# EAGLE library part 74*38 (library 74xx-eu)
Quad 2-input NAND buffer (open collector)
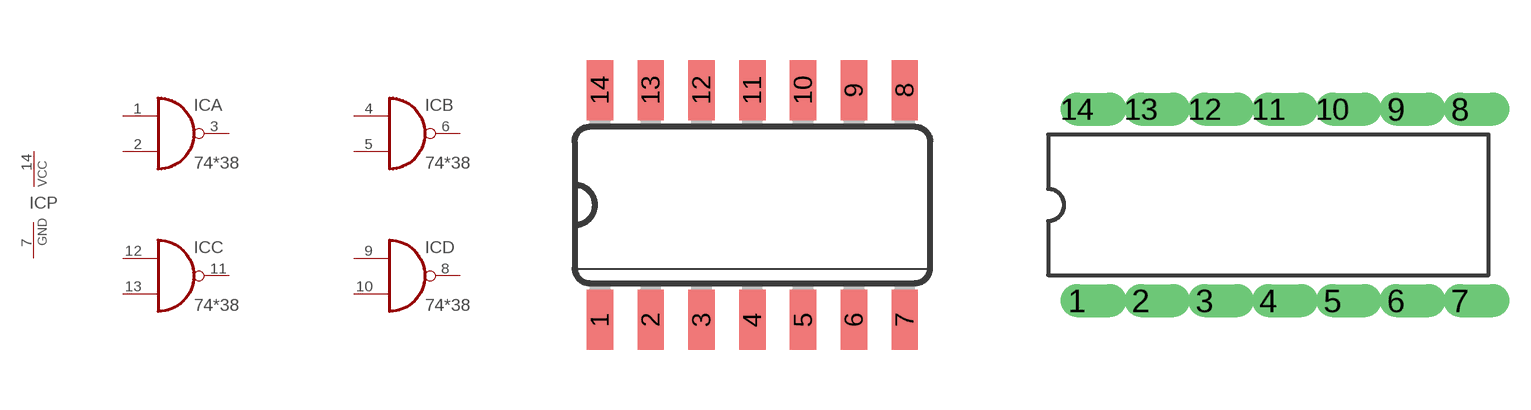
[diagram p325: symbol with the pads of SO14; footprints SO14, DIL14]

Designator prefix IC; gates A=7438 B=7438 C=7438 D=7438 P=PWRN

## 7438D  [SO14]
1  A:I0  in
2  A:I1  in
3  A:O  oc
4  B:I0  in
5  B:I1  in
6  B:O  oc
7  P:GND  pwr
8  D:O  oc
9  D:I0  in
10  D:I1  in
11  C:O  oc
12  C:I0  in
13  C:I1  in
14  P:VCC  pwr

## 7438N, 74ALS38N, 74F38N, 74LS38N, 74S38N  [DIL14]
Pads as for SO14

## Footprint SO14 (pad centres in mm)
Small Outline package 150 mil
smd 0.66 x 1.5: 1 -3.81,-2.873; 2 -2.54,-2.873; 3 -1.27,-2.873; 4 0,-2.873; 5 1.27,-2.873; 6 2.54,-2.873; 7 3.81,-2.873; 8 3.81,2.873; 9 2.54,2.873; 10 1.27,2.873; 11 0,2.873; 12 -1.27,2.873; 13 -2.54,2.873; 14 -3.81,2.873

## Footprint DIL14 (pad centres in mm)
Dual In Line
drill 0.8 offset: 1 -7.62,-3.81; 2 -5.08,-3.81; 3 -2.54,-3.81; 4 0,-3.81; 5 2.54,-3.81; 6 5.08,-3.81; 7 7.62,-3.81; 8 7.62,3.81; 9 5.08,3.81; 10 2.54,3.81; 11 0,3.81; 12 -2.54,3.81; 13 -5.08,3.81; 14 -7.62,3.81